# Altium footprint library SMD_JUMPER_3PIN.PcbLib: 1 footprints
Each footprint in its own frame and in the unit in brackets; x right, y up, seen from the top. Pads: shape width x height; smd on the part's side, far side on the other; paste and mask are expansions set on the pad; w line width, h text height; cw(c..) or ccw(c..) is an arc to the next point about the centre after c.
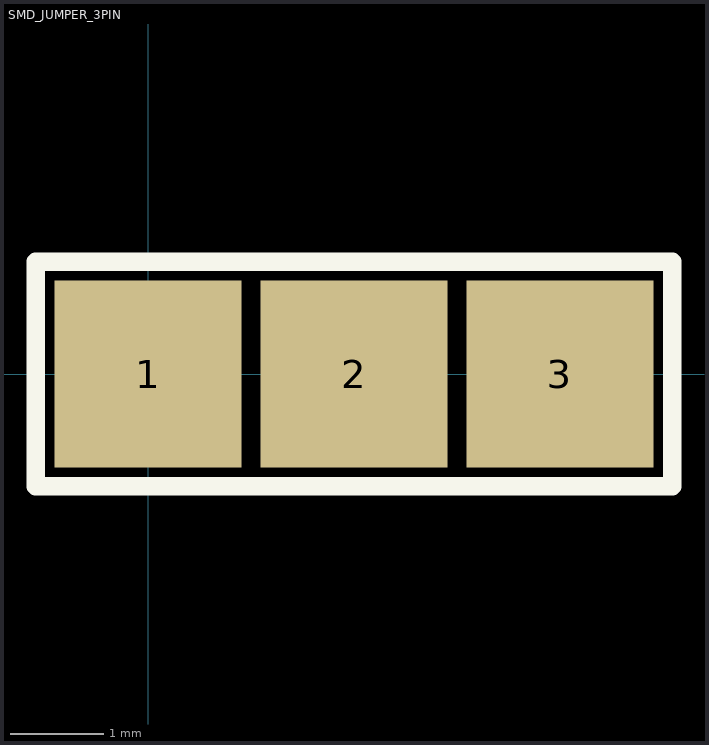
[diagram p0: the footprint, top view; thin cyan lines are the x and y axes]

## SMD_JUMPER_3PIN [mm] "3-PIN SMD JUMPER PAD"
pads (3):
  rect 2x2 smd: 1(0,0) 2(2.2,0) 3(4.4,0)
Top Overlay:
  lines w0.2: -1.2,-1.2 5.6,-1.2 5.6,1.2 -1.2,1.2 -1.2,-1.2